# EAGLE library part BLU (library otto)
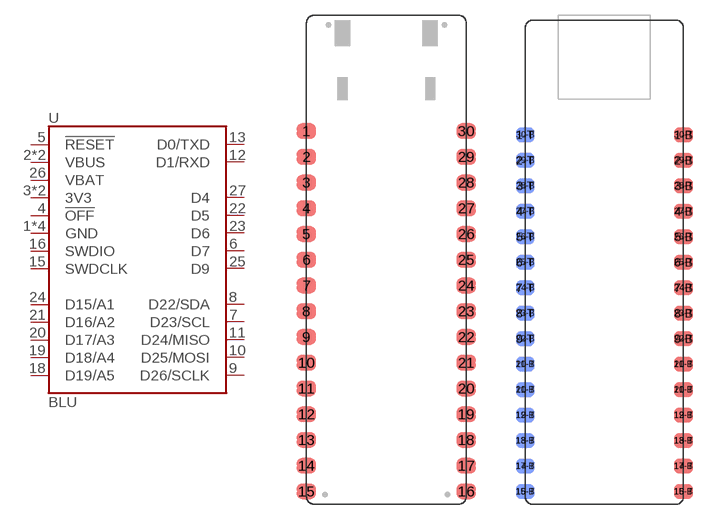
[diagram p1: symbol with the pads of BLU; footprints BLU, BLU-DBL]

Designator prefix U

## BLU  [BLU]
1  GND
2  VBUS
3  3V3
4  !OFF
5  !RESET
6  D7
7  D23/SCL
8  D22/SDA
9  D26/SCLK
10  D25/MOSI
11  D24/MISO
12  D1/RXD
13  D0/TXD
14  GND
15  SWDCLK
16  SWDIO
17  GND
18  D19/A5
19  D18/A4
20  D17/A3
21  D16/A2
22  D5
23  D6
24  D15/A1
25  D9
26  VBAT
27  D4
28  3V3
29  VBUS
30  GND

## BLU-DBL  [BLU-DBL]
1-B  GND
1-T  GND
2-B  VBUS
2-T  VBUS
3-B  3V3
3-T  3V3
4-B  !OFF
4-T  !OFF
5-B  !RESET
5-T  !RESET
6-B  D7
6-T  D7
7-B  D23/SCL
7-T  D23/SCL
8-B  D22/SDA
8-T  D22/SDA
9-B  D26/SCLK
9-T  D26/SCLK
10-B  D25/MOSI
10-T  D25/MOSI
11-B  D24/MISO
11-T  D24/MISO
12-B  D1/RXD
12-T  D1/RXD
13-B  D0/TXD
13-T  D0/TXD
14-B  GND
14-T  GND
15-B  SWDCLK
15-T  SWDCLK
16-B  SWDIO
16-T  SWDIO
17-B  GND
17-T  GND
18-B  D19/A5
18-T  D19/A5
19-B  D18/A4
19-T  D18/A4
20-B  D17/A3
20-T  D17/A3
21-B  D16/A2
21-T  D16/A2
22-B  D5
22-T  D5
23-B  D6
23-T  D6
24-B  D15/A1
24-T  D15/A1
25-B  D9
25-T  D9
26-B  VBAT
26-T  VBAT
27-B  D4
27-T  D4
28-B  3V3
28-T  3V3
29-B  VBUS
29-T  VBUS
30-B  GND
30-T  GND

## Footprint BLU (pad centres in mm)
smd 1.905 x 1.524: 1 -7.874,-11.43; 2 -7.874,-13.97; 3 -7.874,-16.51; 4 -7.874,-19.05; 5 -7.874,-21.59; 6 -7.874,-24.13; 7 -7.874,-26.67; 8 -7.874,-29.21; 9 -7.874,-31.75; 10 -7.874,-34.29; 11 -7.874,-36.83; 12 -7.874,-39.37; 13 -7.874,-41.91; 14 -7.874,-44.45; 15 -7.874,-46.99; 16 7.874,-46.99; 17 7.874,-44.45; 18 7.874,-41.91; 19 7.874,-39.37; 20 7.874,-36.83; 21 7.874,-34.29; 22 7.874,-31.75; 23 7.874,-29.21; 24 7.874,-26.67; 25 7.874,-24.13; 26 7.874,-21.59; 27 7.874,-19.05; 28 7.874,-16.51; 29 7.874,-13.97; 30 7.874,-11.43

## Footprint BLU-DBL (pad centres in mm)
smd 1.905 x 1.524 bottom: 1-B 7.874,-11.43; 2-B 7.874,-13.97; 3-B 7.874,-16.51; 4-B 7.874,-19.05; 5-B 7.874,-21.59; 6-B 7.874,-24.13; 7-B 7.874,-26.67; 8-B 7.874,-29.21; 9-B 7.874,-31.75; 10-B 7.874,-34.29; 11-B 7.874,-36.83; 12-B 7.874,-39.37; 13-B 7.874,-41.91; 14-B 7.874,-44.45; 15-B 7.874,-46.99; 16-B -7.874,-46.99; 17-B -7.874,-44.45; 18-B -7.874,-41.91; 19-B -7.874,-39.37; 20-B -7.874,-36.83; 21-B -7.874,-34.29; 22-B -7.874,-31.75; 23-B -7.874,-29.21; 24-B -7.874,-26.67; 25-B -7.874,-24.13; 26-B -7.874,-21.59; 27-B -7.874,-19.05; 28-B -7.874,-16.51; 29-B -7.874,-13.97; 30-B -7.874,-11.43
smd 1.905 x 1.524: 1-T -7.874,-11.43; 2-T -7.874,-13.97; 3-T -7.874,-16.51; 4-T -7.874,-19.05; 5-T -7.874,-21.59; 6-T -7.874,-24.13; 7-T -7.874,-26.67; 8-T -7.874,-29.21; 9-T -7.874,-31.75; 10-T -7.874,-34.29; 11-T -7.874,-36.83; 12-T -7.874,-39.37; 13-T -7.874,-41.91; 14-T -7.874,-44.45; 15-T -7.874,-46.99; 16-T 7.874,-46.99; 17-T 7.874,-44.45; 18-T 7.874,-41.91; 19-T 7.874,-39.37; 20-T 7.874,-36.83; 21-T 7.874,-34.29; 22-T 7.874,-31.75; 23-T 7.874,-29.21; 24-T 7.874,-26.67; 25-T 7.874,-24.13; 26-T 7.874,-21.59; 27-T 7.874,-19.05; 28-T 7.874,-16.51; 29-T 7.874,-13.97; 30-T 7.874,-11.43